# Altium schematic symbol library 130k 0603 RES.SchLib: 1 symbol
Pins are listed as number, name and electrical type; pins without a type are passive.

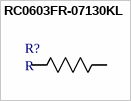
[diagram p0: symbol RC0603FR-07130KL]

## RC0603FR-07130KL
designator R?, comment R
Imported; Manufacturer Part Number: RC0603FR-07130KL; Vendor: Yageo; Built_By: EMA_UL_Team; Value: 130k; C: Copyright (C) 2015 Accelerated Designs. All rights reserved; RefDes: RefDes; Type: DEV
footprint RC0603N
footprint RC0603N
footprint RC0603N-M
pins: 1, 2